# Altium footprint library SOT-223_DIO.PcbLib: 1 footprints
Each footprint in its own frame and in the unit in brackets; x right, y up, seen from the top. Pads: shape width x height; smd on the part's side, far side on the other; paste and mask are expansions set on the pad; w line width, h text height; cw(c..) or ccw(c..) is an arc to the next point about the centre after c.
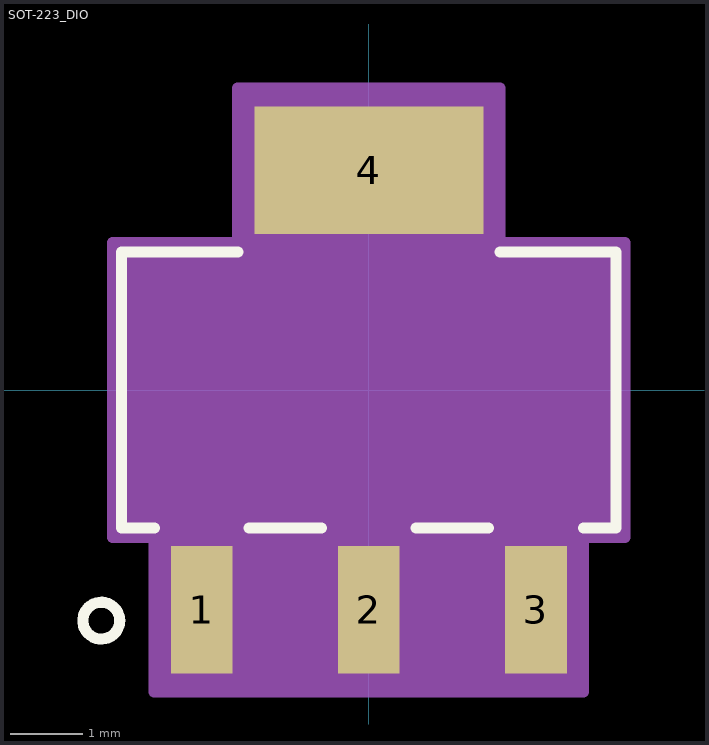
[diagram p0: the footprint, top view; thin cyan lines are the x and y axes]

## SOT-223_DIO [mm]
pads (4):
  rect 0.851x1.761 smd paste+0 mask+0: 1(-2.3,-3.025) 2(0,-3.025) 3(2.3,-3.025)
  rect 3.151x1.761 smd paste+0 mask+0: 4(0,3.025)
Top Overlay:
  circle w0.152: c-3.683,-3.175 r0.254
  lines w0.152: -2.953,-1.902 -3.402,-1.902 -3.402,1.902 -1.803,1.902 ; -1.647,-1.902 -0.653,-1.902 ; 0.653,-1.902 1.647,-1.902 ; 1.803,1.902 3.402,1.902 3.402,-1.902 2.953,-1.902
Mechanical 13:
  circle w0: c-3.021,-1.521 r0.127
  lines w0.025: -3.275,-1.775 3.275,-1.775 3.275,1.775 -3.275,1.775 -3.275,-1.775 ; -2.7,-3.55 -2.7,-1.775 -1.9,-1.775 -1.9,-3.55 -2.7,-3.55 ; -1.55,1.775 1.55,1.775 1.55,3.55 -1.55,3.55 -1.55,1.775 ; -0.4,-3.55 -0.4,-1.775 0.4,-1.775 0.4,-3.55 -0.4,-3.55 ; 1.9,-3.55 1.9,-1.775 2.7,-1.775 2.7,-3.55 1.9,-3.55
Mechanical 15:
  region: -3.529,-2.029 -3.529,2.029 -1.804,2.029 -1.804,4.16 1.804,4.16 1.804,2.029 3.529,2.029 3.529,-2.029 2.954,-2.029 2.954,-4.16 -2.954,-4.16 -2.954,-2.029
  lines w0.152: -3.529,-2.029 -3.529,2.029 -1.804,2.029 -1.804,4.16 1.804,4.16 1.804,2.029 3.529,2.029 3.529,-2.029 2.954,-2.029 2.954,-4.16 -2.954,-4.16 -2.954,-2.029 -3.529,-2.029
3D body: height 0.25, standoff 0, extent 0,0 0.254,0.254
3D body "SOT-223_DIO.step": height 1.65, standoff 0, extent -3.275,-3.55 3.275,3.55